# Altium schematic symbol library MICRON-MT28F644W18FE-806KTET.schlib: 1 symbol
Pins are listed as number, name and electrical type; pins without a type are passive.

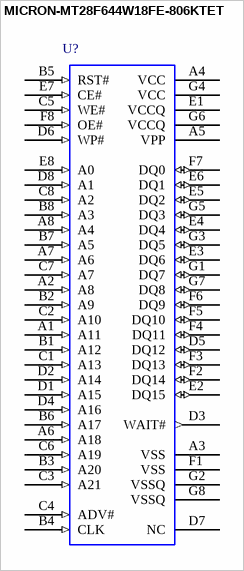
[diagram p0: symbol MICRON-MT28F644W18FE-806KTET]

## MICRON-MT28F644W18FE-806KTET
designator U?  (value not drawn)
4 MEG x 16 ASYNC/PAGE/BURST FLASH MEMORY; CircuitryPartsPN: MICRON-MT28F644W18FE-806KTET; ManufacturerPN: MT28F644W18FE-806KTET; Manufacturer: Micron Technology Inc; CategoryI: Integrated Circuits (ICs); CategoryII: NOR FLASH MEMORY; SchematicRev: A; DesignedBy: Circuitry Parts; MfgURL: http://www.micron.com/; PackageName: VFBGA56; FootprintName: *; Value: *; DesignedOn: 7/18/2005 3:14:46 PM
pins: A1 A11 (in), A2 A8 (in), A3 VSS (power), A4 VCC (power), A5 VPP (power), A6 A18 (in), A7 A6 (in), A8 A4 (in), B1 A12 (in), B2 A9 (in), B3 A20 (in), B4 CLK (in), B5 RST# (in), B6 A17 (in), B7 A5 (in), B8 A3 (in), C1 A13 (in), C2 A10 (in), C3 A21 (in), C4 ADV# (in), C5 WE# (in), C6 A19 (in), C7 A7 (in), C8 A2 (in), D1 A15 (in), D2 A14 (in), D3 WAIT# (out), D4 A16 (in), D5 DQ12 (io), D6 WP# (in), D7 NC, D8 A1 (in), E1 VCCQ (power), E2 DQ15 (io), E3 DQ6 (io), E4 DQ4 (io), E5 DQ2 (io), E6 DQ1 (io), E7 CE# (in), E8 A0 (in), F1 VSS (power), F2 DQ14 (io), F3 DQ13 (io), F4 DQ11 (io), F5 DQ10 (io), F6 DQ9 (io), F7 DQ0 (io), F8 OE# (in), G1 DQ7 (io), G2 VSSQ (power), G3 DQ5 (io), G4 VCC (power), G5 DQ3 (io), G6 VCCQ (power), G7 DQ8 (io), G8 VSSQ (power)